# EAGLE library part OV5642_MODULE (library Chao)
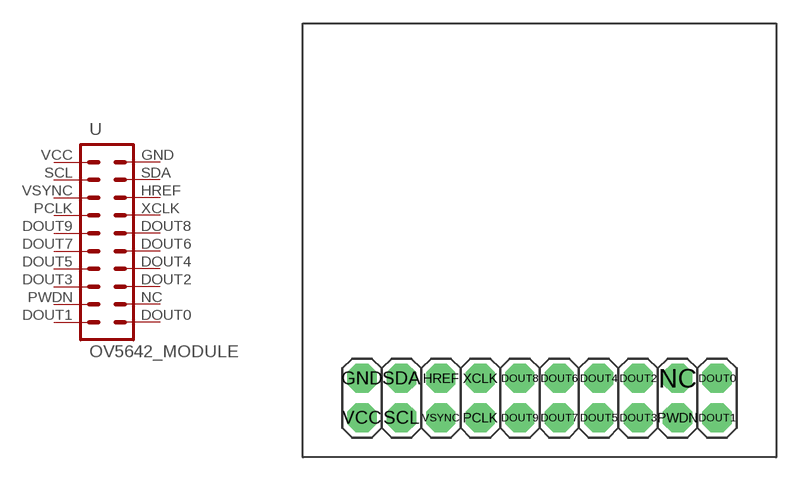
[diagram p12: symbol with the pads of OV5642_MODULE; footprint OV5642_MODULE]

Designator prefix -

## OV5642_MODULE  [OV5642_MODULE]
DOUT0  20  pas
DOUT1  19  pas
DOUT2  16  pas
DOUT3  15  pas
DOUT4  14  pas
DOUT5  13  pas
DOUT6  12  pas
DOUT7  11  pas
DOUT8  10  pas
DOUT9  9  pas
GND  2  pas
HREF  6  pas
NC  18  pas
PCLK  7  pas
PWDN  17  pas
SCL  3  pas
SDA  4  pas
VCC  1  pas
VSYNC  5  pas
XCLK  8  pas

## Footprint OV5642_MODULE (pad centres in mm)
drill 1.016 pad 1.88 octagon: DOUT0 11.43,1.27; DOUT1 11.43,-1.27; DOUT2 6.35,1.27; DOUT3 6.35,-1.27; DOUT4 3.81,1.27; DOUT5 3.81,-1.27; DOUT6 1.27,1.27; DOUT7 1.27,-1.27; DOUT8 -1.27,1.27; DOUT9 -1.27,-1.27; GND -11.43,1.27; HREF -6.35,1.27; NC 8.89,1.27; PCLK -3.81,-1.27; PWDN 8.89,-1.27; SCL -8.89,-1.27; SDA -8.89,1.27; VCC -11.43,-1.27; VSYNC -6.35,-1.27; XCLK -3.81,1.27